# EAGLE library part MCP2551 (library Shohei)
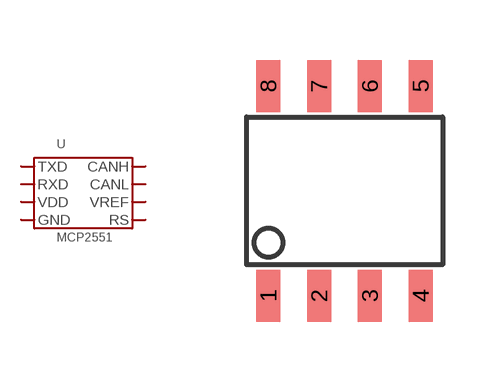
[diagram p8: symbol with the pads of SOIC8; footprint SOIC8]

Designator prefix -

## MCP2551  [SOIC8]
1  TXD
2  GND
3  VDD
4  RXD
5  VREF
6  CANL
7  CANH
8  RS

## Footprint SOIC8 (pad centres in mm)
smd 0.6 x 1.3: 1 -1.905,-2.625; 2 -0.635,-2.625; 3 0.635,-2.625; 4 1.905,-2.625; 5 1.905,2.625; 6 0.635,2.625; 7 -0.635,2.625; 8 -1.905,2.625